# Altium footprint library components.PcbLib: 3 footprints
Each footprint in its own frame and in the unit in brackets; x right, y up, seen from the top. Pads: shape width x height; smd on the part's side, far side on the other; paste and mask are expansions set on the pad; w line width, h text height; cw(c..) or ccw(c..) is an arc to the next point about the centre after c.
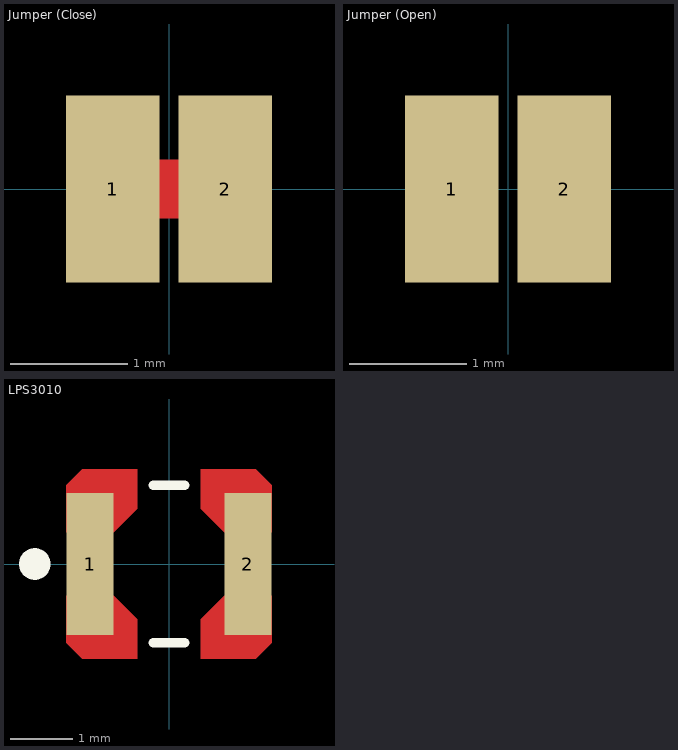
[diagram p0: the footprints below, top view; thin cyan lines are the x and y axes]

## Jumper (Close) [mm]
pads (2):
  rect 0.8x1.6 smd: 1(-0.483,0) 2(0.483,0)
Top Layer:
  rectangle: -0.102,-0.254 0.102,0.254
  lines w0: -0.483,0 0.076,0

## Jumper (Open) [mm]
pads (2):
  rect 0.8x1.6 smd: 1(-0.483,0) 2(0.483,0)

## LPS3010 [mil] "Shielded SMT Power Inductors – LPS3010 Series"
pads (2):
  rect 30x90 smd: 1(-50,0) 2(50,0)
Top Layer:
  region: -80,20
  region: -65,20 -35,20 -20,35 -20,60 -55,60 -65,50
  region: 65,20 35,20 20,35 20,60 55,60 65,50
  region: -65,-20 -35,-20 -20,-35 -20,-60 -55,-60 -65,-50
  region: 65,-20 35,-20 20,-35 20,-60 55,-60 65,-50
Top Overlay:
  circle w10: c-85,0 r5
  lines w6: -10,-50 10,-50 ; -10,50 10,50
3D body: height 10, standoff 0, extent -55,-50 55,50